# EAGLE library part LC898302AXA-MH (library SamacSys_Parts)
Motor / Motion / Ignition Controllers & Drivers Linear Vibrator Driv Source: Datasheet <https://www.arrow.com/en/products/lc898302axa-mh/on-semiconductor>
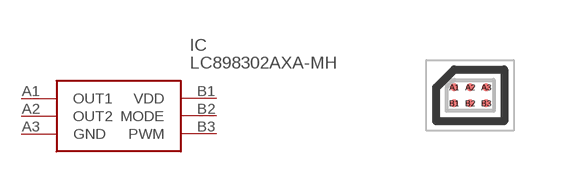
[diagram p2: symbol with the pads of BGA6C40P3X2_118X78X65; footprint BGA6C40P3X2_118X78X65]

Designator prefix IC

## LC898302AXA-MH (Description: Motor / Motion / Ignition Controllers & Drivers Linear Vibrator Driv; Height: 0.65mm; Manufacturer_Name: ON Semiconductor; Manufacturer_Part_Number: LC898302AXA-MH; Mouser_Part_Number: 863-LC898302AXA-MH; Mouser_Price-Stock: https://www.mouser.co.uk/ProductDetail/ON-Semiconductor/LC898302AXA-MH?qs=raqtESnDWsCbGq19hBfPlw%3D%3D)  [BGA6C40P3X2_118X78X65]
A1  OUT1
A2  OUT2
A3  GND
B1  VDD
B2  MODE
B3  PWM

## Footprint BGA6C40P3X2_118X78X65 (pad centres in mm)
LC898302AXA-MH
smd 0.2 x 0.2: A1 -0.4,0.2; A2 0,0.2; A3 0.4,0.2; B1 -0.4,-0.2; B2 0,-0.2; B3 0.4,-0.2